# Altium integrated library LED.IntLib: 5 symbols
Pins are listed as number, name and electrical type; pins without a type are passive.

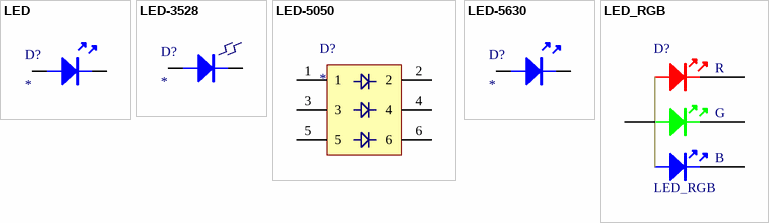
[diagram p0: symbols LED to LED_RGB]

## LED
designator D?
footprint LED5-BLUE
footprint LED5-GRE
footprint LED5-RED
footprint LED5-YEL
footprint LED3-BLUE
footprint LED3-GRE
footprint LED3-RED
footprint LED3-YEL
footprint 1WLED
footprint LED-0603B
footprint LED-0603G
footprint LED-0805R
footprint LED-0603W
footprint LED-0603Y
footprint LED-0805B
footprint LED-0805G
footprint LED-0805R
footprint LED-0603W
footprint LED-0805Y
footprint LED-1206B
footprint LED-1206G
footprint LED-1206R
footprint LED-1206W
footprint LED-1206Y
pins: A, K

## LED-3528
designator D?
footprint LED-3528R
pins: A, K

## LED-5050
designator D?
footprint LED-5050W
footprint Model Name (Model Description)
pins: 1, 2, 3, 4, 5, 6

## LED-5630
designator D?
footprint LED-5630W
pins: A, K

## LED_RGB
designator D?
贴片0805， 深圳市追芯电子
footprint 0805RGB
pins: 1, 2, 3, 4
text: R; G; B